# Altium schematic symbol library P101DA_Library.SchLib: 81 symbols (part 2 of 2)
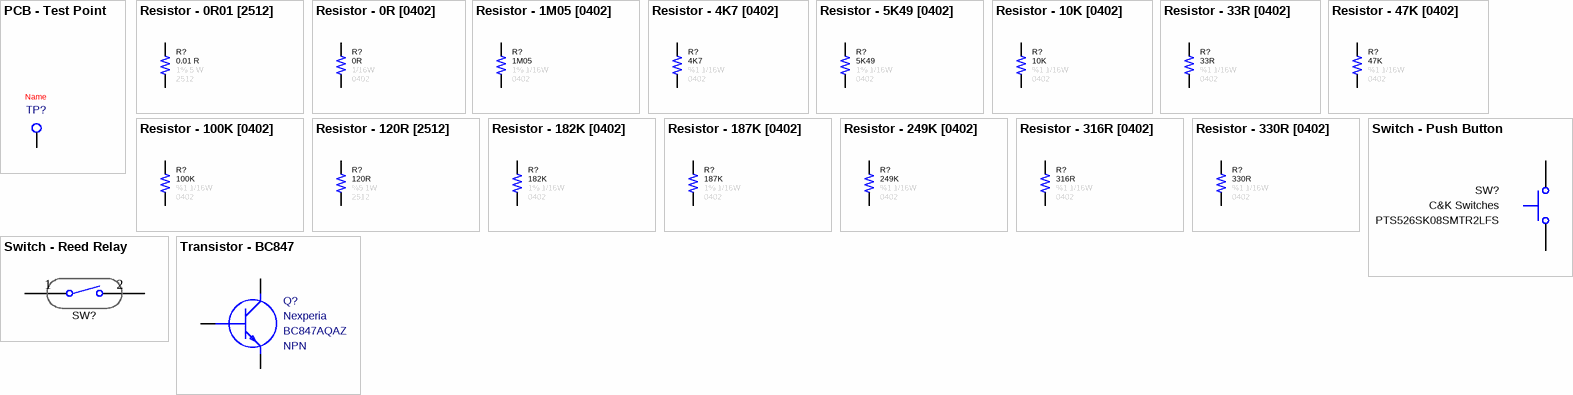
[diagram p5: symbols PCB - Test Point to Transistor - BC847]

## Resistor - 47K [0402]
designator R?, comment value 47K  Tolerance: %1  Case: 0402  Power: 1/16W  (hidden comment: 47K - 0402 - %1 - 1/16W)
Thick Film Resistors - SMD 1/16 W 47 KOhm 1%; Manufacturer Name: Vishay; Manufacturer Part Number: CRCW040247K0FKED; ComponentLink1Description: DataSheet; ComponentLink1URL: https://www.mouser.com.tr/datasheet/2/427/dcrcwe3-1762152.pdf; ComponentLink2Description: Mouser; ComponentLink2URL: https://www.mouser.com.tr/ProductDetail/Vishay-Dale/CRCW040247K0FKED?qs=sGAEpiMZZMu61qfTUdNhG2DpbjADlD3GL%252B3h1elTxqU%3D
footprint RESISTOR_0402 (Chip Resistor, IPC High Density)
pins: 1, 2

## Resistor - 100K [0402]
designator R?, comment value 100K  Tolerance: %1  Case: 0402  Power: 1/16W  (hidden comment: 100K - 0402 - %1 - 1/16W)
Thick Film Resistors - SMD 1/16 W 100 KOhm 1%; Manufacturer Name: Vishay; Manufacturer Part Number: CRCW0402100KFKED; ComponentLink1Description: DataSheet; ComponentLink1URL: https://www.mouser.com.tr/datasheet/2/427/dcrcwe3-1762152.pdf; ComponentLink2Description: Mouser; ComponentLink2URL: https://www.mouser.com.tr/ProductDetail/Vishay-Dale/CRCW040210K0FKED?qs=sGAEpiMZZMu61qfTUdNhG2DpbjADlD3GcalbOv9utCY%3D
footprint RESISTOR_0402 (Chip Resistor, IPC High Density)
pins: 1, 2

## Resistor - 120R [2512]
designator R?, comment value 120R  Tolerance: %5  Case: 2512  Power: 1W  (hidden comment: 120R - 2512 - %5 - 1W)
Thick Film Resistors - SMD 1 W 120 Ohm 5%; Manufacturer Name: YAGEO; Manufacturer Part Number: RC2512JK-07120RL; ComponentLink1Description: DataSheet; ComponentLink1URL: https://www.mouser.com.tr/datasheet/2/447/PYu_RC_Group_51_RoHS_L_11-1984063.pdf
footprint RESISTOR_2512 (Chip Resistor, IPC High Density)
pins: 1, 2

## Resistor - 182K [0402]
designator R?, comment value 182K  Power: 1/16W  Case: 0402  Tolerance: 1%  (hidden comment: 182K - 0402 - %1 - 1/16W)
Thick Film Resistors - SMD 1/16 W 182 KOhm 1%; Manufacturer Name: Vishay; Manufacturer Part Number: CRCW0402182KFKEDC
footprint RESISTOR_0402 (Chip Resistor, IPC High Density)
pins: 1, 2

## Resistor - 187K [0402]
designator R?, comment value 187K  Power: 1/16W  Case: 0402  Tolerance: 1%  (hidden comment: 187K - 0402 - %1 - 1/16W)
Thick Film Resistors - SMD 1/16 W 187 KOhm 1%; Manufacturer Name: Vishay; Manufacturer Part Number: CRCW0402182KFKEDC
footprint RESISTOR_0402 (Chip Resistor, IPC High Density)
pins: 1, 2

## Resistor - 249K [0402]
designator R?, comment value 249K  Power: 1/16W  Case: 0402  Tolerance: %1  (hidden comment: 249K - 0402 - %1 - 1/16W)
Thick Film Resistors - SMD 1/16 W 249 KOhm 1%; Manufacturer Name: Vishay; Manufacturer Part Number: CRCW0402249KFKED
footprint RESISTOR_0402 (Chip Resistor, IPC High Density)
pins: 1, 2

## Resistor - 316R [0402]
designator R?, comment value 316R  Power: 1/16W  Case: 0402  Tolerance: %1  (hidden comment: 316R - 0402 - %1 - 1/16W)
Thick Film Resistors - SMD 1/16 W 316 Ohm 1%; Manufacturer Name: Vishay; Manufacturer Part Number: CRCW0402316RFKED
footprint RESISTOR_0402 (Chip Resistor, IPC High Density)
pins: 1, 2

## Resistor - 330R [0402]
designator R?, comment value 330R  Case: 0402  Tolerance: %1  Power: 1/16W  (hidden comment: 330R - 0402 - %1 - 1/16W)
Thick Film Resistors - SMD 1/16 W 330 Ohm 1%; Manufacturer Name: Vishay; Manufacturer Part Number: CRCW0402330RFKED; ComponentLink1Description: DataSheet; ComponentLink1URL: https://www.mouser.com.tr/datasheet/2/427/dcrcwe3-1762152.pdf; ComponentLink2Description: Mouser; ComponentLink2URL: https://www.mouser.com.tr/ProductDetail/Vishay-Dale/CRCW0402330RFKED?qs=sGAEpiMZZMu61qfTUdNhG2DpbjADlD3GGS6SwBlLi5Q%3D
footprint RESISTOR_0402 (Chip Resistor, IPC High Density)
pins: 1, 2

## Switch - Push Button
designator SW?, comment Manufacturer Name: C&K Switches  (hidden comment: PTS526SK08SMTR2LFS)
Switch Tactile N.O. SPST Flush Round Button Gull Wing 0.05A 12VDC 200000Cycles 2.45N SMD T/R; Current Rating: 50 mA; Contact Form: SPST; Product Type: Tactile Switches; RoHS: Yes; Voltage Rating: 12 VDC; Case: SMD; Manufacturer Part Number: PTS526SK08SMTR2LFS
footprint PTS526_Switch (Tactile Swittch)
pins: 1 NC, 2 COM

## Switch - Reed Relay
designator SW?, comment Reed Relay  (value not drawn)
Reed relay - SMD 11.7 mm; Manufacturer Name: Ryazan Metal Ceramic; Manufacturer Part Number: MKA-10110MS; Height: 3mm
footprint REED Relay (Reed Relay)
pins: 1 NC, 2 COM

## Transistor - BC847
designator Q?, comment Manufacturer Name: Nexperia  Polarity: NPN  (hidden comment: BC847AQAZ)
Bipolar NPN Transistors; Case: DFN-1010D-3; Manufacturer Part Number: BC847AQAZ
footprint SOT1215
pins: 1 B, 2 E, 3 C